# Altium schematic symbol library Schematic Components.SchLib: 39 symbols (part 2 of 2)
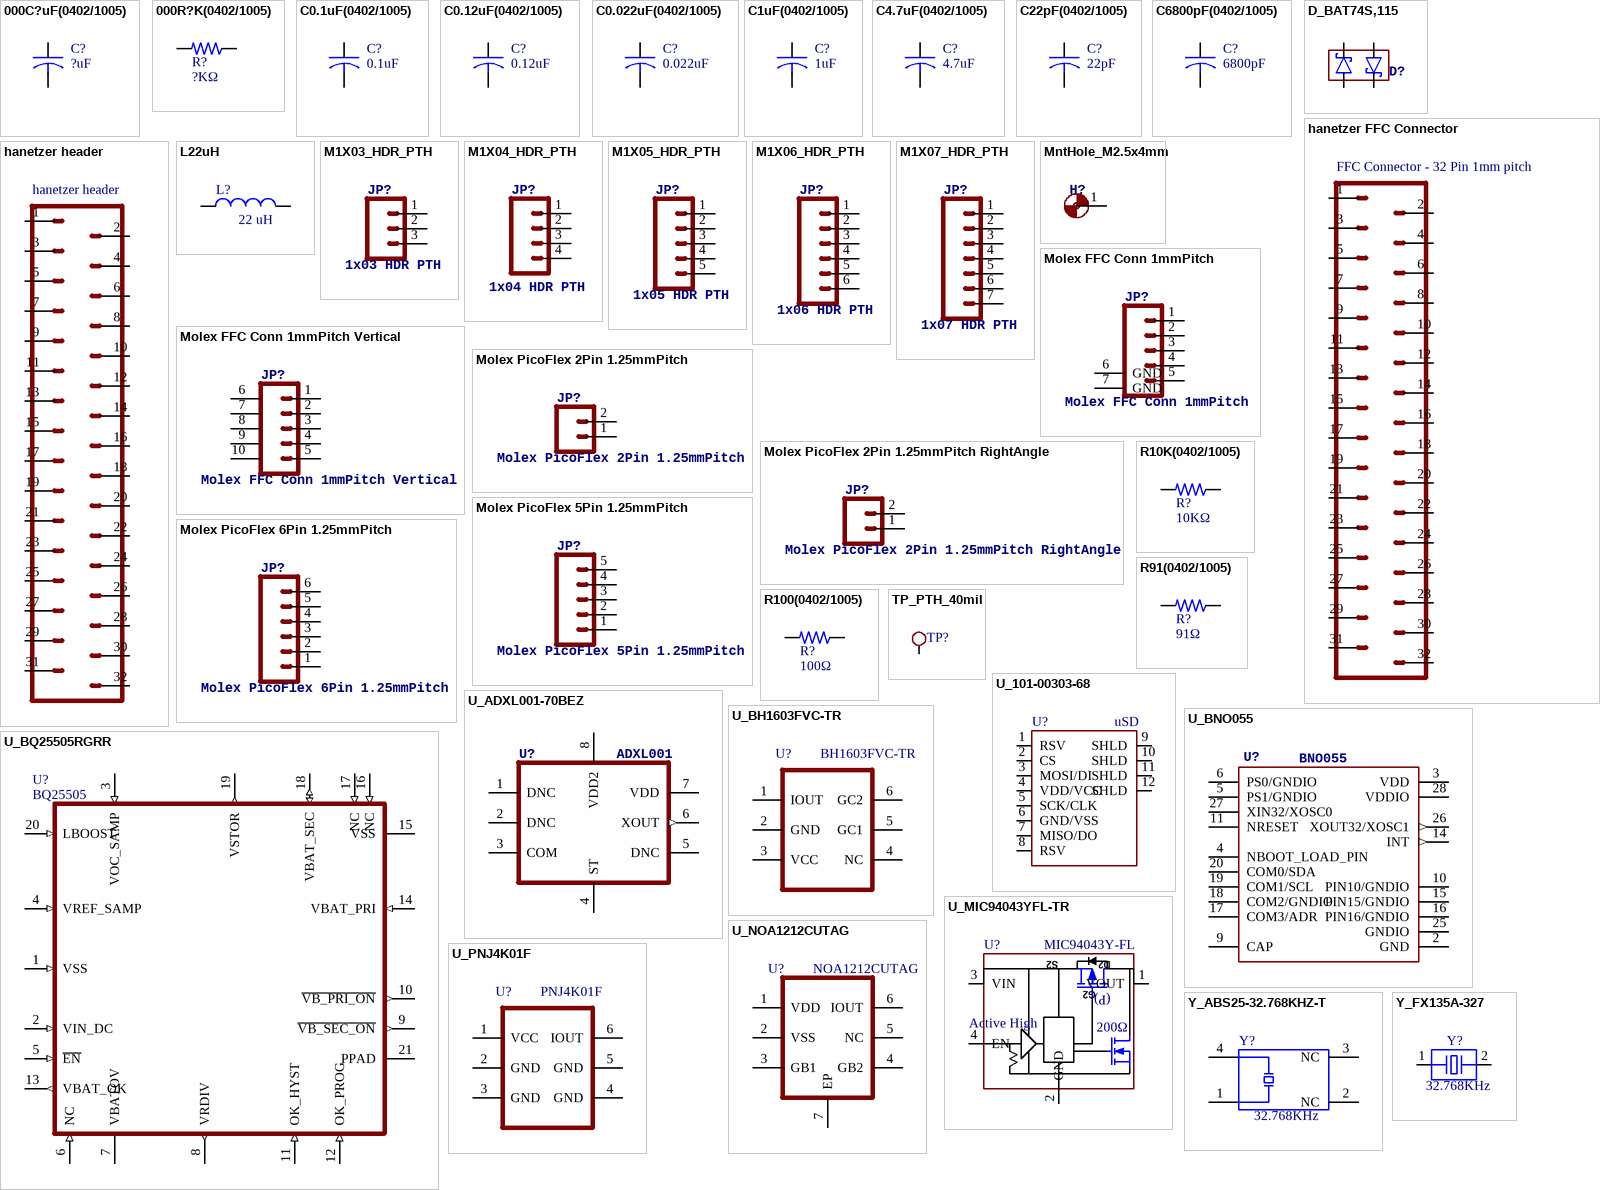
[diagram p1: symbols 000C?uF(0402/1005) to Y_FX135A-327]

## Y_ABS25-32.768KHZ-T
designator Y?, comment 32.768KHz
32.768KHz Crystal; Manufacturer: Abracon LLC; Manufacturer Part Number: ABS25-32.768KHZ-T; Frequency Tolerance: ±20ppm; Load Capacitance: 12.5pF; ESR (Equivalent Series Resistance): 50 kOhm; Operating Mode: Fundamental; Supplier 1: Digi-Key; Supplier Part Number 1: 535-9166-1-ND; RoHS: RoHS Compliant; Category: Crystals, Oscillators, Resonators; Stock 1: 501707; Pricing 1: 1=0.4, 10=0.33, 50=0.297, 100=0.264, 500=0.2508, 1000=0.2112 (USD); Packaging: Cut Tape (CT); Part Status: Active; Type: kHz Crystal (Tuning Fork); Frequency: 32.768kHz; Frequency Stability: -; Operating Temperature: -40°C ~ 85°C; Ratings: -; Mounting Type: Surface Mount; Package / Case: 4-SOJ, 5.50mm pitch; Size / Dimension: 0.315" L x 0.150" W (8.00mm x 3.80mm); Height - Seated (Max): 0.098" (2.50mm); ComponentLink1URL: http://www.abracon.com/Resonators/abs25.pdf; ComponentLink1Description: http://www.abracon.com/Resonators/abs25.pdf
footprint Y_ABS25-32.768KHZ-T (SOJ, 4-Leads, Body 8.00x3.80mm, Pitch 5.50mm, IPC Medium Density)
pins: 1, 2 NC, 3 NC, 4

## Y_FX135A-327
designator Y?, comment 32.768KHz
32.768KHz Crystal; Manufacturer: Fox Electronics; Manufacturer Part Number: FX135A-327; Frequency Tolerance: ±20ppm; Load Capacitance: 12.5pF; ESR (Equivalent Series Resistance): 70 kOhm; Operating Mode: Fundamental; Supplier 1: Digi-Key; Supplier Part Number 1: 631-1002-1-ND; RoHS: RoHS Compliant; Category: Crystals, Oscillators, Resonators; Stock 1: 39276; Pricing 1: 1=0.46, 10=0.385, 50=0.3466, 100=0.308, 500=0.2926, 1000=0.2464 (USD); Packaging: Cut Tape (CT); Part Status: Active; Type: kHz Crystal (Tuning Fork); Frequency: 32.768kHz; Frequency Stability: -; Operating Temperature: -40°C ~ 85°C; Ratings: -; Mounting Type: Surface Mount; Package / Case: 2-SMD, No Lead; Size / Dimension: 0.126" L x 0.059" W (3.20mm x 1.50mm); Height - Seated (Max): 0.035" (0.90mm); ComponentLink1URL: http://www.foxonline.com/pdfs/FX135.pdf; ComponentLink1Description: http://www.foxonline.com/pdfs/FX135.pdf
footprint Y_FX135A-327 (DFN, 2-Leads, Body 1.50x3.20mm, Pitch 2.50mm, IPC Medium Density)
pins: 1, 2